# Altium schematic symbol library Smartwatch_Lib.SchLib: 35 symbols
Pins are listed as number, name and electrical type; pins without a type are passive.

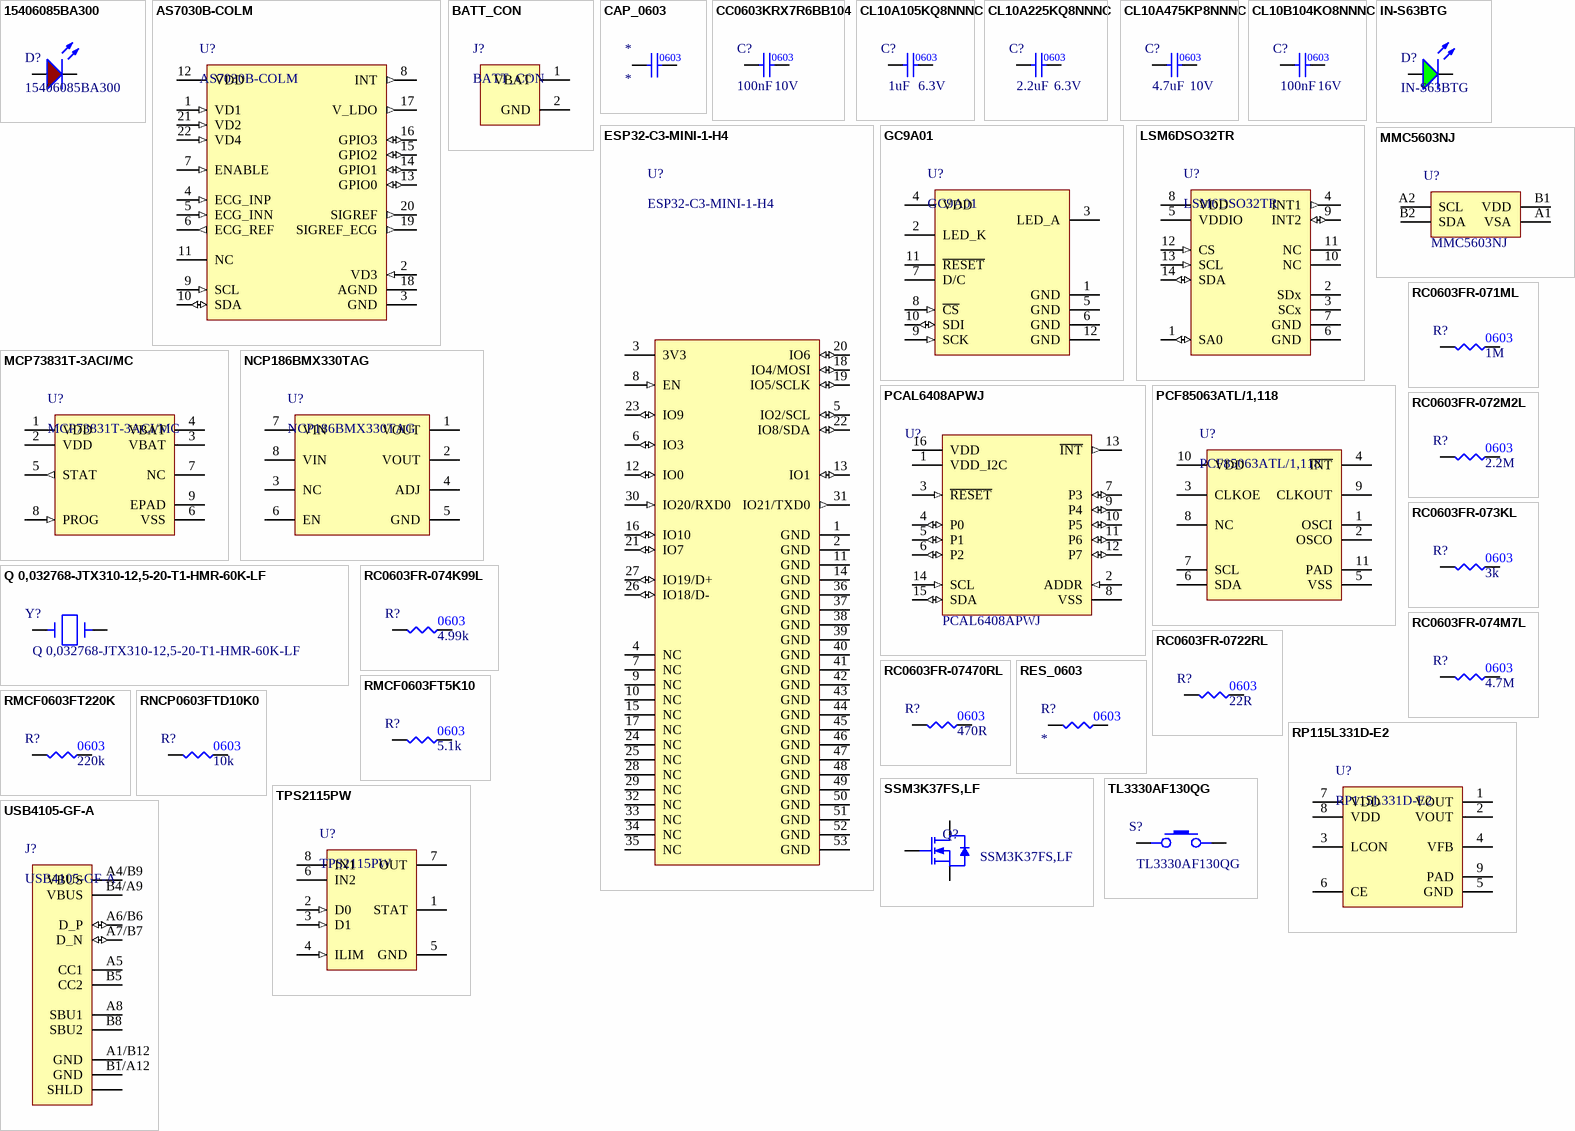
[diagram p0: symbols 15406085BA300 to USB4105-GF-A]

## 15406085BA300
designator D?
Infrared Emitter, 850 Nm, 0603 Rohs Compliant: Yes; Manufacturer: Wurth Electronics; Supplier 1: Digi-Key; Manufacturer Part Number: 15406085BA300; RoHS: Yes; Stock 1: 7698; Pricing 1: 1=0.62000, 10=0.56100, 100=0.52200, 500=0.48200, 1000=0.44300 (USD); RoHS Compliant: Yes; ComponentLink1URL: http://katalog.we-online.de/pbs/datasheet/15406085BA300.pdf?src-supplier=Digi-Key; ComponentLink1Description: http://katalog.we-online.de/pbs/datasheet/15406085BA300.pdf?src-supplier=Digi-Key; ComponentLink2URL: https://katalog.we-online.de/pbs/datasheet/15406085BA300.pdf?src-supplier=Digi-Key; ComponentLink2Description: https://katalog.we-online.de/pbs/datasheet/15406085BA300.pdf?src-supplier=Digi-Key; Supplier Part Number 1: 732-12005-1-ND
footprint LED_0603
pins: 1 A, 2 K

## AS7030B-COLM
designator U?
AS703x Series 5.5 V Medical or Consumer Grade Vital Sign Sensor Module - OLGA-22; Manufacturer: ams; Supplier 1: Mouser; Manufacturer Part Number: AS7030B-COLM; RoHS: No; Supplier Part Number 1: 985-AS7030B-COLM
footprint AS7030B-COLM (SON, 22-Leads, Body 6.36x3.51mm, Pitch 0.59mm, IPC Medium Density)
pins: 1 VD1 (in), 2 VD3 (in), 3 GND (power), 4 ECG_INP (in), 5 ECG_INN (in), 6 ECG_REF (out), 7 ENABLE (in), 8 INT (out), 9 SCL (in), 10 SDA (io), 11 NC, 12 VDD (power), 13 GPIO0 (io), 14 GPIO1 (io), 15 GPIO2 (io), 16 GPIO3 (io), 17 V_LDO (out), 18 AGND (power), 19 SIGREF_ECG (out), 20 SIGREF (out), 21 VD2 (in), 22 VD4 (in)

## BATT_CON
designator J?
Pads for Battery Connection
footprint BATT_CON
pins: 1 VBAT, 2 GND

## CAP_0603
designator *
footprint CAP_0603
pins: 1, 2
text: 0603

## CC0603KRX7R6BB104
designator C?  Capacitance: 100nF  Voltage Rating: 10V  (hidden comment: CC0603KRX7R6BB104)
CAP CER 0.1UF 10V X7R 0603; Manufacturer: Yageo; Tolerance: 10%; Supplier 1: Digi-Key; Manufacturer Part Number: CC0603KRX7R6BB104; RoHS: Yes; Category: Ceramic Capacitors; Stock 1: 135167; Pricing 1: 1=0.11000, 10=0.07700, 50=0.04340, 100=0.03600, 500=0.02522, 1000=0.02089 (USD); Mount: Surface Mount; Case/Package: 0603; Case Code (Imperial): 0603; Case Code (Metric): 1608; Weight: 7.1E-05oz; Min Operating Temperature: -55°C; Max Operating Temperature: 125°C; Dielectric: X7R; Voltage Rating (DC): 10V; Packaging: Tape and Reel; Termination: SMD/SMT; Resistor Type: Ceramic; Series: CC; Construction: Flat; Length: 1.6mm; Width: 0.8mm; Height: 0.8mm; Thickness: 0.035inch; Depth: 0.8mm; Radiation Hardening: No; Lead Free: Lead Free; Halogen Free: Halogen Free; RoHS Compliant: Yes; ComponentLink1URL: https://datasheet.ciiva.com/11586/upy-gphc-x7r-6-3v-to-50v-8-11586327.pdf?src-supplier=Avnet; ComponentLink1Description: https://datasheet.ciiva.com/11586/upy-gphc-x7r-6-3v-to-50v-8-11586327.pdf?src-supplier=Avnet; Supplier Part Number 1: 311-4055-1-ND
footprint CAP_0603
pins: 1, 2

## CL10A105KQ8NNNC
designator C?  Capacitance: 1uF  Voltage Rating (DC): 6.3V  (hidden comment: CL10A105KQ8NNNC)
CAP CER 1UF 6.3V X5R 0603; Manufacturer: Samsung; Tolerance: 10%; Supplier 1: Digi-Key; Manufacturer Part Number: CL10A105KQ8NNNC; RoHS: Yes; Category: Ceramic Capacitors; Stock 1: 1150582; Pricing 1: 1=0.10000, 10=0.03100, 50=0.01700, 100=0.01390, 500=0.00990, 1000=0.00777 (USD); Mount: Surface Mount; Case/Package: 0603; Case Code (Metric): 1608; Case Code (Imperial): 0603; Min Operating Temperature: -55°C; Max Operating Temperature: 85°C; Dielectric: X5R; Packaging: Tape and Reel; Package Quantity: 1; Voltage Rating: 6.3V; Series: CL; Construction: Flat; Length: 1.6mm; Width: 0.031inch; Height: 0.8mm; Thickness: 0.035inch; Depth: 0.8mm; Radiation Hardening: No; Lead Free: Lead Free; RoHS Compliant: Yes; ComponentLink1URL: https://datasheet.ciiva.com/25801/cl10a105kq8nnnc-25801975.pdf?src-supplier=Digi-Key; ComponentLink1Description: https://datasheet.ciiva.com/25801/cl10a105kq8nnnc-25801975.pdf?src-supplier=Digi-Key; ComponentLink2URL: https://datasheet.ciiva.com/26838/getdatasheetpartid-355285-26838337.pdf?src-supplier=Verical; ComponentLink2Description: https://datasheet.ciiva.com/26838/getdatasheetpartid-355285-26838337.pdf?src-supplier=Verical; ComponentLink3URL: https://datasheet.ciiva.com/16199/cl10a105ko8nnnc-16199274.pdf?src-supplier=Future+Electronics; ComponentLink3Description: https://datasheet.ciiva.com/16199/cl10a105ko8nnnc-16199274.pdf?src-supplier=Future+Electronics; Supplier Part Number 1: 1276-1036-1-ND
footprint CAP_0603
pins: 1, 2

## CL10A225KQ8NNNC
designator C?  Voltage Rating: 6.3V  Capacitance: 2.2uF  (hidden comment: CL10A225KQ8NNNC)
CAP CER 2.2UF 6.3V X5R 0603; Manufacturer: Samsung; Tolerance: 10%; Supplier 1: Digi-Key; Manufacturer Part Number: CL10A225KQ8NNNC; RoHS: Yes; Category: Ceramic Capacitors; Stock 1: 697049; Pricing 1: 1=0.10000, 10=0.04200, 50=0.02300, 100=0.01870, 500=0.01336, 1000=0.01050 (USD); Mount: Surface Mount; Case/Package: 0603; Case Code (Metric): 1608; Case Code (Imperial): 0603; Contact Plating: Tin; Min Operating Temperature: -55°C; Max Operating Temperature: 85°C; Packaging: Tape and Reel; Package Quantity: 1; Dielectric: X5R; Voltage Rating (DC): 6.3V; Series: CL; Construction: Flat; Voltage: 6.3V; Length: 1.6mm; Width: 0.031inch; Height: 0.8mm; Thickness: 0.035inch; Depth: 0.8mm; Radiation Hardening: No; Lead Free: Lead Free; RoHS Compliant: Yes; ComponentLink1URL: https://datasheet.ciiva.com/16199/cl10a225kq8nnnc-16199203.pdf?src-supplier=Future+Electronics; ComponentLink1Description: https://datasheet.ciiva.com/16199/cl10a225kq8nnnc-16199203.pdf?src-supplier=Future+Electronics; ComponentLink2URL: https://datasheet.ciiva.com/15195/getdatasheetpartid-358618-15195712.pdf?src-supplier=Verical; ComponentLink2Description: https://datasheet.ciiva.com/15195/getdatasheetpartid-358618-15195712.pdf?src-supplier=Verical; Supplier Part Number 1: 1276-1183-1-ND
footprint CAP_0603
pins: 1, 2

## CL10A475KP8NNNC
designator C?  Capacitance: 4.7uF  Voltage Rating: 10V  (hidden comment: CL10A475KP8NNNC)
CAP CER 4.7UF 10V X5R 0603; Manufacturer: Samsung; Tolerance: 10%; Supplier 1: Digi-Key; Manufacturer Part Number: CL10A475KP8NNNC; RoHS: Yes; Category: Ceramic Capacitors; Stock 1: 5193189; Pricing 1: 1=0.10000, 10=0.04700, 50=0.02580, 100=0.02110, 500=0.01506, 1000=0.01183 (USD); Mount: Surface Mount; Case/Package: 0603; Case Code (Metric): 1608; Case Code (Imperial): 0603; Contact Plating: Tin; Min Operating Temperature: -55°C; Max Operating Temperature: 85°C; Package Quantity: 1; Packaging: Tape and Reel; Dielectric: X5R; Series: CL; Construction: Flat; Length: 1.6mm; Width: 0.031inch; Height: 0.8mm; Thickness: 0.035inch; Depth: 0.8mm; Radiation Hardening: No; RoHS Compliant: Yes; ComponentLink1URL: https://datasheet.ciiva.com/25797/cl10a475kp8nnnc-25797520.pdf?src-supplier=Digi-Key; ComponentLink1Description: https://datasheet.ciiva.com/25797/cl10a475kp8nnnc-25797520.pdf?src-supplier=Digi-Key; ComponentLink2URL: https://datasheet.ciiva.com/26838/getdatasheetpartid-358676-26838384.pdf?src-supplier=Verical; ComponentLink2Description: https://datasheet.ciiva.com/26838/getdatasheetpartid-358676-26838384.pdf?src-supplier=Verical; ComponentLink3URL: https://datasheet.ciiva.com/16318/cl05b104kq5nnnc-16318245.pdf?src-supplier=Future+Electronics; ComponentLink3Description: https://datasheet.ciiva.com/16318/cl05b104kq5nnnc-16318245.pdf?src-supplier=Future+Electronics; Supplier Part Number 1: 1276-1044-1-ND
footprint CAP_0603
pins: 1, 2

## CL10B104KO8NNNC
designator C?  Capacitance: 100nF  Voltage Rating: 16V  (hidden comment: CL10B104KO8NNNC)
CAP CER 0.1UF 16V X7R 0603; Manufacturer: Samsung; Material: Ceramic; Tolerance: 10%; Supplier 1: Digi-Key; Manufacturer Part Number: CL10B104KO8NNNC; RoHS: Yes; Category: Ceramic Capacitors; Stock 1: 5142695; Pricing 1: 1=0.10000, 10=0.03000, 50=0.01640, 100=0.01330, 500=0.00950, 1000=0.00747 (USD); Mount: Surface Mount; Case/Package: 0603; Case Code (Metric): 1608; Case Code (Imperial): 0603; Contact Plating: Tin; Min Operating Temperature: -55°C; Max Operating Temperature: 125°C; Dielectric: X7R; Voltage Rating (DC): 16V; Packaging: Tape and Reel; Package Quantity: 1; Voltage: 16V; Series: CL; Length: 1.6mm; Width: 0.031inch; Height: 0.8mm; Depth: 0.8mm; Thickness: 0.035inch; Radiation Hardening: No; Lead Free: Lead Free; RoHS Compliant: Yes; ComponentLink1URL: https://datasheet.ciiva.com/25805/cl10b104ko8nnnc-25805483.pdf?src-supplier=Digi-Key; ComponentLink1Description: https://datasheet.ciiva.com/25805/cl10b104ko8nnnc-25805483.pdf?src-supplier=Digi-Key; ComponentLink2URL: https://datasheet.ciiva.com/26838/getdatasheetpartid-357417-26838418.pdf?src-supplier=Verical; ComponentLink2Description: https://datasheet.ciiva.com/26838/getdatasheetpartid-357417-26838418.pdf?src-supplier=Verical; ComponentLink3URL: https://datasheet.ciiva.com/29198/456679-da-01-en-vs-kondensator-0603-29198846.pdf?src-supplier=Conrad; ComponentLink3Description: https://datasheet.ciiva.com/29198/456679-da-01-en-vs-kondensator-0603-29198846.pdf?src-supplier=Conrad; Supplier Part Number 1: 1276-1005-1-ND
footprint CAP_0603
pins: 1, 2

## ESP32-C3-MINI-1-H4
designator U?
SMD Module, ESP32-C3FH4, Pcb Ant; Manufacturer: Espressif Systems; Supplier 1: Digi-Key; Manufacturer Part Number: ESP32-C3-MINI-1-H4; RoHS: No; Stock 1: 1970; Pricing 1: 1=1.95000 (USD); Supplier Part Number 1: 1965-ESP32-C3-MINI-1-H4CT-ND
footprint ESP32-C3-MINI-1-H4
pins: 1 GND (power), 2 GND (power), 3 3V3 (power), 4 NC, 5 IO2/SCL (io), 6 IO3 (io), 7 NC, 8 EN (in), 9 NC, 10 NC, 11 GND (power), 12 IO0 (io), 13 IO1 (io), 14 GND (power), 15 NC, 16 IO10 (io), 17 NC, 18 IO4/MOSI (io), 19 IO5/SCLK (io), 20 IO6 (io), 21 IO7 (io), 22 IO8/SDA (io), 23 IO9 (io), 24 NC, 25 NC, 26 IO18/D- (io), 27 IO19/D+ (io), 28 NC, 29 NC, 30 IO20/RXD0 (in), 31 IO21/TXD0 (out), 32 NC, 33 NC, 34 NC, 35 NC, 36 GND (power), 37 GND (power), 38 GND (power), 39 GND (power), 40 GND (power), 41 GND (power), 42 GND (power), 43 GND (power), 44 GND (power), 45 GND (power), 46 GND (power), 47 GND (power), 48 GND (power), 49 GND (power), 50 GND (power), 51 GND (power), 52 GND (power), 53 GND (power)

## GC9A01
designator U?
GC9A01 LCD Display
footprint GC9A01
pins: 1 GND, 2 LED_K, 3 LED_A, 4 VDD, 5 GND, 6 GND, 7 D/C, 8 ~{CS} (in), 9 SCK (in), 10 SDI (io), 11 ~{RESET}, 12 GND

## IN-S63BTG
designator D?
LED Uni-Color Green 530nm 2-Pin Chip 0603(1608Metric) T/R; Manufacturer: Inolux; Supplier 1: Digi-Key; Manufacturer Part Number: IN-S63BTG; RoHS: Yes; Category: LEDs; Stock 1: 10550; Pricing 1: 1=0.33000, 10=0.26300, 100=0.11830, 500=0.10684, 1000=0.08777, 2000=0.07632 (USD); Supplier Part Number 1: 1830-1069-1-ND
footprint LED_0603
pins: 1 A, 2 K

## LSM6DSO32TR
designator U?
Accelerometer and 3D Gyroscope 3D Always-On 1.71V to 3.6V 0.55mA 14-Pin LGA T/R; Manufacturer: STMicroelectronics; Supplier 1: Digi-Key; Manufacturer Part Number: LSM6DSO32TR; RoHS: Yes; Category: Inertial Measurement Units (IMUs); Stock 1: 3146; Pricing 1: 1=5.47000, 10=4.91400, 25=4.64520, 100=4.02600, 500=3.44102 (USD); Supplier Part Number 1: 497-LSM6DSO32CT-ND
footprint LSM6DSO32 (QFN, 14-Leads, Body 3.00x2.50mm, Pitch 0.50mm, IPC Medium Density)
pins: 1 SA0 (io), 2 SDx, 3 SCx, 4 INT1 (out), 5 VDDIO (power), 6 GND (power), 7 GND (power), 8 VDD (oe), 9 INT2 (io), 10 NC, 11 NC, 12 CS (in), 13 SCL (in), 14 SDA (io)

## MCP73831T-3ACI/MC
designator U?
Battery Management - Advanced Lithium-Ion/-Polymer Charge mgnt contr; Manufacturer: Microchip; Output Voltage: 4.35V; Output Current: 500mA; Min Supply Voltage: 3.75V; Max Supply Voltage: 6V; Supplier 1: Digi-Key; Manufacturer Part Number: MCP73831T-3ACI/MC; RoHS: Yes; Category: Battery Management; Stock 1: 1670; Pricing 1: 1=0.83000, 25=0.69960, 100=0.64500 (USD); Mount: Surface Mount; Case/Package: DFN; Number of Pins: 8; Min Operating Temperature: -40°C; Max Operating Temperature: 85°C; Packaging: Tape and Reel; Package Quantity: 3300; Radiation Hardening: No; Lead Free: Lead Free; RoHS Compliant: Yes; ComponentLink1URL: https://datasheet.ciiva.com/3215/21984e-3215301.pdf?src-supplier=Avnet; ComponentLink1Description: https://datasheet.ciiva.com/3215/21984e-3215301.pdf?src-supplier=Avnet; ComponentLink2URL: https://datasheet.ciiva.com/1933/21984e-1933408.pdf?src-supplier=Digi-Key; ComponentLink2Description: https://datasheet.ciiva.com/1933/21984e-1933408.pdf?src-supplier=Digi-Key; Supplier Part Number 1: MCP73831T-3ACI/MCCT-ND
footprint MCP73831T-3ACI/MC (SON, 8-Leads, Body 2.00x3.00mm, Pitch 0.50mm, Thermal Pad 1.43x1.58mm, IPC Medium Density)
pins: 1 VDD, 2 VDD, 3 VBAT, 4 VBAT, 5 STAT (out), 6 VSS, 7 NC, 8 PROG (in), 9 EPAD

## MMC5603NJ
designator U?
3-AXIS Amr Magnetic Sensor; Manufacturer: Memsic; Supplier 1: Digi-Key; RoHS: Yes; Stock 1: 55171; Pricing 1: 1=1.12000, 5=1.06600, 10=0.92800, 25=0.81520, 50=0.67720, 100=0.57680, 500=0.50160, 1000=0.43890, 5000=0.38874 (USD); Supplier Part Number 1: 1267-MMC5603NJCT-ND; Manufacturer Part Number: MMC5603NJ
footprint MMC5603NJ (BGA, 4-Leads, Body 0.82x0.82mmx0.60mm, Pitch 0.40mm)
pins: A1 VSA, A2 SCL, B1 VDD, B2 SDA

## NCP186BMX330TAG
designator U?
LDO Regulator, 1 A, Ultra-Low Dropout, High PSRR, with Enable XDFN8-1216, Non-Active Discharge, 3.3V; Manufacturer: ON Semiconductor; Output Current: 1A; Dropout Voltage: 95mV; Number of Regulators: 1; Min Current Limit: 1.1A; Supplier 1: Digi-Key; Manufacturer Part Number: NCP186BMX330TAG; RoHS: Yes; Category: Voltage Regulators - Linear; Stock 1: 3000; Pricing 1: 1=0.52000, 10=0.44200, 25=0.41200, 100=0.32970, 250=0.30620, 500=0.25908, 1000=0.20020 (USD); Min Operating Temperature: -40°C; Max Operating Temperature: 125°C; Packaging: Tape and Reel; Output Voltage: 3.3V; Lead Free: Lead Free; RoHS Compliant: Yes; ComponentLink1URL: http://www.mouser.com/ds/2/308/NCP186-D-968152.pdf?src-supplier=Mouser; ComponentLink1Description: http://www.mouser.com/ds/2/308/NCP186-D-968152.pdf?src-supplier=Mouser; ComponentLink2URL: http://www.onsemi.com/pub/Collateral/NCP186-D.PDF?src-supplier=Digi-Key; ComponentLink2Description: http://www.onsemi.com/pub/Collateral/NCP186-D.PDF?src-supplier=Digi-Key; Supplier Part Number 1: NCP186BMX330TAGOSCT-ND
footprint NCP186BMX330TAG (SON, 8-Leads, Body 1.60x1.20mm, Pitch 0.40mm, Thermal Pad 1.30x0.22mm, IPC Medium Density)
pins: 1 VOUT, 2 VOUT, 3 NC, 4 ADJ, 5 GND, 6 EN, 7 VIN, 8 VIN

## PCAL6408APWJ
designator U?
NXP - PCAL6408APWJ - I/O-Erweiterung, 8bit, 400 kHz, I2C, 1.65 V, 5.5 V, TSSOP; Manufacturer: NXP Semiconductors; Output Current: 25mA; Min Supply Voltage: 1.65V; Max Supply Voltage: 5.5V; Number of I/Os: 8; Frequency: 400kHz; Supplier 1: Digi-Key; RoHS: Yes; Category: Interface ICs; Stock 1: 9585; Pricing 1: 1=1.57000, 10=1.40600, 25=1.33400, 100=1.29330 (USD); Mount: Surface Mount; Case/Package: TSSOP; Number of Pins: 16; Min Operating Temperature: -40°C; Max Operating Temperature: 85°C; Package Quantity: 1; Interface: I2C; Packaging: Tape and Reel; Max Frequency: 400kHz; Series: -; REACH SVHC: No SVHC; Lead Free: Lead Free; RoHS Compliant: Yes; ComponentLink1URL: https://datasheet.ciiva.com/6633/pcal6408a-6633104.pdf?src-supplier=Digi-Key; ComponentLink1Description: https://datasheet.ciiva.com/6633/pcal6408a-6633104.pdf?src-supplier=Digi-Key; Supplier Part Number 1: 568-9921-1-ND; Manufacturer Part Number: PCAL6408APWJ
footprint PCAL6408APWJ (TSOP, 16-Leads, Body 5.00x4.40mm, Pitch 0.65mm, IPC Medium Density)
pins: 1 VDD_I2C (power), 2 ADDR (in), 3 ~{RESET} (in), 4 P0 (io), 5 P1 (io), 6 P2 (io), 7 P3 (io), 8 VSS (power), 9 P4 (io), 10 P5 (io), 11 P6 (io), 12 P7 (io), 13 ~{INT} (out), 14 SCL (in), 15 SDA (io), 16 VDD (power)

## PCF85063ATL/1,118
designator U?
IC RTC CLK/CALENDAR I2C 10-SON; Manufacturer: NXP Semiconductors; Max Supply Voltage: 5.5V; Min Supply Voltage: 900mV; Logic Function: Clock; Date Format: Binary; Time Format: HH:MM:SS; Supplier 1: Digi-Key; Manufacturer Part Number: PCF85063ATL/1,118; RoHS: Yes; Category: Real Time Clocks; Stock 1: 59710; Pricing 1: 1=0.99000, 10=0.88300, 25=0.83840, 100=0.81280 (USD); Mount: Surface Mount; Case/Package: DFN EP; Number of Pins: 10; Min Operating Temperature: -40°C; Max Operating Temperature: 85°C; Packaging: Tape and Reel; Package Quantity: 4000; Interface: I2C; Radiation Hardening: No; REACH SVHC: No SVHC; Lead Free: Lead Free; RoHS Compliant: Yes; ComponentLink1URL: https://datasheet.ciiva.com/24009/pcf85063atl-260519-24009961.pdf?src-supplier=Mouser; ComponentLink1Description: https://datasheet.ciiva.com/24009/pcf85063atl-260519-24009961.pdf?src-supplier=Mouser; ComponentLink2URL: https://datasheet.ciiva.com/29888/pcf85063a-29888091.pdf?src-supplier=Avnet; ComponentLink2Description: https://datasheet.ciiva.com/29888/pcf85063a-29888091.pdf?src-supplier=Avnet; Supplier Part Number 1: 568-10235-1-ND
footprint PCF85063ATL/1,118 (SON, 10-Leads, Body 2.60x2.60mm, Pitch 0.50mm, Thermal Pad 2.15x1.29mm, IPC Medium Density)
pins: 1 OSCI, 2 OSCO, 3 CLKOE, 4 ~{INT}, 5 VSS, 6 SDA, 7 SCL, 8 NC, 9 CLKOUT, 10 VDD, 11 PAD

## Q 0,032768-JTX310-12,5-20-T1-HMR-60K-LF
designator Y?
Crystal 32.7680KHZ 12.5PF SMD; Manufacturer: Jauch; ESR: 60k; Supplier 1: Digi-Key; RoHS: No; Stock 1: 4280; Pricing 1: 1=0.59000, 10=0.49500, 50=0.44560, 100=0.39600, 500=0.37620, 1000=0.31680 (USD); Supplier Part Number 1: 1908-1315-1-ND; Load Capacitance: 12.5pF; Manufacturer Part Number: Q 0,032768-JTX310-12,5-20-T1-HMR-60K-LF
footprint Q 0,032768-JTX310-12,5-20-T1-HMR-60K-LF (Tuning Fork 2-Leads, Body 3.20x1.50mm, IPC Medium Density)
pins: 1 In/Out, 2 Out/In

## RC0603FR-071ML
designator R?  Resistance: 1M  (hidden comment: RC0603FR-071ML)
RES 1M OHM 1% 1/10W 0603; Manufacturer: Yageo; Voltage Rating: 75V; Voltage Rating (DC): 50V; Power Rating: 100mW; Temperature Coefficient: 100ppm/°C; Application(s): HIGH RELIABILITY; Supplier 1: Digi-Key; Manufacturer Part Number: RC0603FR-071ML; RoHS: Yes; Category: Chip SMD Resistors; Stock 1: 2335859; Pricing 1: 1=0.10000, 10=0.02400, 100=0.00970, 1000=0.00436, 2500=0.00378 (USD); Case/Package: 0603; Number of Pins: 2; Case Code (Imperial): 0603; Case Code (Metric): 1608; Weight: 0.000847oz; Min Operating Temperature: -55°C; Max Operating Temperature: 155°C; Tolerance: 1%; Packaging: Cut Tape; Package Quantity: 5000; Termination: SMD/SMT; Resistor Type: Thick Film; Type: General Purpose; Series: RC; Technology: THICK FILM; Length: 1.6mm; Width: 0.8mm; Height: 0.45mm; Depth: 0.8mm; RoHS Compliant: Yes; REACH SVHC: No SVHC; Military Standard: Not; Lead Free: Lead Free; ComponentLink1URL: https://datasheet.ciiva.com/11819/0900766b80f96399-11819295.pdf?src-supplier=RSComponents; ComponentLink1Description: https://datasheet.ciiva.com/11819/0900766b80f96399-11819295.pdf?src-supplier=RSComponents; ComponentLink2URL: https://datasheet.ciiva.com/7983/443971-7983614.pdf?src-supplier=Element14; ComponentLink2Description: https://datasheet.ciiva.com/7983/443971-7983614.pdf?src-supplier=Element14; ComponentLink3URL: https://datasheet.ciiva.com/12555/rc0603-272842-12555388.pdf?src-supplier=Mouser; ComponentLink3Description: https://datasheet.ciiva.com/12555/rc0603-272842-12555388.pdf?src-supplier=Mouser; Supplier Part Number 1: 311-1.00MHRCT-ND
footprint RES_0603
pins: 1, 2

## RC0603FR-072M2L
designator R?  Resistance: 2.2M  (hidden comment: RC0603FR-072M2L)
RES SMD 2.2M OHM 1% 1/10W 0603; Manufacturer: Yageo; Voltage Rating (DC): 50V; Power Rating: 100mW; Temperature Coefficient: 100ppm/°C; Supplier 1: Digi-Key; Manufacturer Part Number: RC0603FR-072M2L; RoHS: Yes; Category: Chip SMD Resistors; Stock 1: 189008; Pricing 1: 1=0.10000, 10=0.02400, 100=0.00970, 1000=0.00436, 2500=0.00378 (USD); Case/Package: 0603; Number of Pins: 2; Case Code (Imperial): 0603; Case Code (Metric): 1608; Size Code: 0603; Min Operating Temperature: -55°C; Max Operating Temperature: 155°C; Packaging: Tape and Reel; Tolerance: 1%; Voltage Rating: 50V; Package Quantity: 5000; Resistor Type: Thick Film; Number of Terminations: 2; Termination: SMD/SMT; Max Power Dissipation: 100mW; Features: Moisture Resistant; Series: RC; Resistance Tolerance: 1%; Technology: THICK FILM; Length: 1.6mm; Width: 0.8mm; Height: 0.45mm; Depth: 0.8mm; REACH SVHC: No SVHC; Lead Free: Lead Free; RoHS Compliant: Yes; ComponentLink1URL: https://datasheet.ciiva.com/11808/0900766b80f96399-11808742.pdf?src-supplier=RSComponents; ComponentLink1Description: https://datasheet.ciiva.com/11808/0900766b80f96399-11808742.pdf?src-supplier=RSComponents; ComponentLink2URL: https://datasheet.ciiva.com/46440/1868787-46440903.pdf?src-supplier=Element14; ComponentLink2Description: https://datasheet.ciiva.com/46440/1868787-46440903.pdf?src-supplier=Element14; ComponentLink3URL: https://datasheet.ciiva.com/12558/rc0603-272842-12558598.pdf?src-supplier=Mouser; ComponentLink3Description: https://datasheet.ciiva.com/12558/rc0603-272842-12558598.pdf?src-supplier=Mouser; ComponentLink4URL: https://datasheet.ciiva.com/7746/443971-7746319.pdf?src-supplier=Element14; ComponentLink4Description: https://datasheet.ciiva.com/7746/443971-7746319.pdf?src-supplier=Element14; Supplier Part Number 1: YAG3329CT-ND
footprint RES_0603
pins: 1, 2

## RC0603FR-073KL
designator R?, comment Resistance: 3k  (hidden comment: RES 3K OHM 1% 1/10W 0603)
Manufacturer: Yageo; Manufacturer Part Number: RC0603FR-073KL; Power Rating: 100mW; Voltage Rating: 50V; Temperature Coefficient: 100ppm/°C; Supplier 1: Digi-Key; RoHS: Yes; Category: Chip SMD Resistors; Stock 1: 631733; Pricing 1: 1=0.10000, 10=0.02400, 100=0.00970, 1000=0.00436, 2500=0.00378 (USD); Case/Package: 0603; Number of Pins: 2; Case Code (Imperial): 0603; Case Code (Metric): 1608; Size Code: 0603; Min Operating Temperature: -55°C; Max Operating Temperature: 155°C; Tolerance: 1%; Packaging: Tape and Reel; Termination: SMD/SMT; Resistor Type: Thick Film; Voltage Rating (DC): 50V; Features: Moisture Resistant; Series: RC; Max Power Dissipation: 100mW; Number of Terminations: 2; Construction: Rectangular; Resistance Tolerance: 1%; Length: 1.6mm; Width: 800um; Depth: 0.8mm; REACH SVHC: No SVHC; Military Standard: Not; Lead Free: Lead Free; RoHS Compliant: Yes; ComponentLink1URL: http://www.farnell.com/datasheets/2167052.pdf?src-supplier=Farnell; ComponentLink1Description: http://www.farnell.com/datasheets/2167052.pdf?src-supplier=Farnell; ComponentLink2URL: http://www.mouser.com/ds/2/447/RC0603-272842.pdf?src-supplier=Mouser; ComponentLink2Description: http://www.mouser.com/ds/2/447/RC0603-272842.pdf?src-supplier=Mouser; ComponentLink3URL: https://www.verical.com/server-webapp/html/getDatasheet?partID=135099&src-supplier=Verical; ComponentLink3Description: https://www.verical.com/server-webapp/html/getDatasheet?partID=135099&src-supplier=Verical; ComponentLink4URL: http://www.farnell.com/datasheets/2167052.pdf?src-supplier=Element14; ComponentLink4Description: http://www.farnell.com/datasheets/2167052.pdf?src-supplier=Element14; ComponentLink5URL: http://www.yageo.com/documents/recent/PYu-RC_Group_51_RoHS_L_10.pdf?src-supplier=Digi-Key; ComponentLink5Description: http://www.yageo.com/documents/recent/PYu-RC_Group_51_RoHS_L_10.pdf?src-supplier=Digi-Key; ComponentLink6URL: http://www.yageo.com/documents/recent/PYu-RC_Group_51_RoHS_L_9.pdf?src-supplier=Digi-Key; ComponentLink6Description: http://www.yageo.com/documents/recent/PYu-RC_Group_51_RoHS_L_9.pdf?src-supplier=Digi-Key; ComponentLink7URL: http://www.farnell.com/datasheets/1868787.pdf?src-supplier=Newark; ComponentLink7Description: http://www.farnell.com/datasheets/1868787.pdf?src-supplier=Newark; ComponentLink8URL: http://www.yageo.com/documents/recent/PYu-RC0603_51_RoHS_L_7.pdf?src-supplier=Future+Electronics; ComponentLink8Description: http://www.yageo.com/documents/recent/PYu-RC0603_51_RoHS_L_7.pdf?src-supplier=Future+Electronics; Supplier Part Number 1: 311-3.00KHRCT-ND
footprint RES_0603
pins: 1, 2

## RC0603FR-074K99L
designator R?  Resistance: 4.99k  (hidden comment: RC0603FR-074K99L)
RES 4.99K OHM 1% 1/10W 0603; Manufacturer: Yageo; Voltage Rating: 75V; Power Rating: 100mW; Temperature Coefficient: 100ppm/°C; Voltage Rating (DC): 50V; Supplier 1: Digi-Key; Manufacturer Part Number: RC0603FR-074K99L; RoHS: Yes; Category: Chip SMD Resistors; Stock 1: 5200913; Pricing 1: 1=0.10000, 10=0.02400, 100=0.00970, 1000=0.00436, 2500=0.00378 (USD); Case/Package: 0603; Number of Pins: 2; Case Code (Imperial): 0603; Case Code (Metric): 1608; Weight: 7.1E-05oz; Size Code: 0603; Min Operating Temperature: -55°C; Max Operating Temperature: 155°C; Packaging: Tape and Reel; Tolerance: 1%; Package Quantity: 1; Termination: SMD/SMT; Resistor Type: Thick Film; Number of Terminations: 2; Max Power Dissipation: 100mW; Features: Moisture Resistant; Series: RC; Construction: Rectangular; Resistance Tolerance: 1%; Length: 1.6mm; Width: 0.8mm; Height: 0.022inch; Depth: 0.8mm; REACH SVHC: Unknown; Military Standard: Not; Lead Free: Lead Free; RoHS Compliant: Yes; ComponentLink1URL: https://datasheet.ciiva.com/7983/443971-7983646.pdf?src-supplier=Element14; ComponentLink1Description: https://datasheet.ciiva.com/7983/443971-7983646.pdf?src-supplier=Element14; ComponentLink2URL: https://datasheet.ciiva.com/22747/443971-22747529.pdf?src-supplier=Element14; ComponentLink2Description: https://datasheet.ciiva.com/22747/443971-22747529.pdf?src-supplier=Element14; ComponentLink3URL: https://datasheet.ciiva.com/2453/pyu-r-int-thick-7-2453980.pdf?src-supplier=Digi-Key; ComponentLink3Description: https://datasheet.ciiva.com/2453/pyu-r-int-thick-7-2453980.pdf?src-supplier=Digi-Key; ComponentLink4URL: https://datasheet.ciiva.com/2453/pyu-r-int-thick-7-2453981.pdf?src-supplier=Digi-Key; ComponentLink4Description: https://datasheet.ciiva.com/2453/pyu-r-int-thick-7-2453981.pdf?src-supplier=Digi-Key; ComponentLink5URL: https://datasheet.ciiva.com/2453/pyu-r-int-thick-7-2453979.pdf?src-supplier=Digi-Key; ComponentLink5Description: https://datasheet.ciiva.com/2453/pyu-r-int-thick-7-2453979.pdf?src-supplier=Digi-Key; Supplier Part Number 1: 311-4.99KHRCT-ND
footprint RES_0603
pins: 1, 2

## RC0603FR-074M7L
designator R?  Resistance: 4.7M  (hidden comment: RC0603FR-074M7L)
RES 4.7M OHM 1% 1/10W 0603; Manufacturer: Yageo; Temperature Coefficient: 100ppm/°C; Power Rating: 100mW; Voltage Rating: 50V; Supplier 1: Digi-Key; Manufacturer Part Number: RC0603FR-074M7L; RoHS: Yes; Category: Chip SMD Resistors; Stock 1: 424983; Pricing 1: 1=0.10000, 10=0.02400, 100=0.00970, 1000=0.00436, 2500=0.00378 (USD); Case/Package: 0603; Number of Pins: 2; Case Code (Imperial): 0603; Case Code (Metric): 1608; Size Code: 0603; Min Operating Temperature: -55°C; Max Operating Temperature: 155°C; Tolerance: 1%; Packaging: Tape and Reel; Voltage Rating (DC): 50V; Termination: SMD/SMT; Resistor Type: Thick Film; Features: Moisture Resistant; Series: RC; Max Power Dissipation: 100mW; Number of Terminations: 2; Resistance Tolerance: 1%; Technology: THICK FILM; Construction: Rectangular; Length: 1.6mm; Width: 0.8mm; Height: 0.45mm; Depth: 0.8mm; RoHS Compliant: Yes; REACH SVHC: No SVHC; Military Standard: Not; Lead Free: Lead Free; ComponentLink1URL: https://datasheet.ciiva.com/11819/0900766b80f96399-11819362.pdf?src-supplier=RSComponents; ComponentLink1Description: https://datasheet.ciiva.com/11819/0900766b80f96399-11819362.pdf?src-supplier=RSComponents; ComponentLink2URL: https://datasheet.ciiva.com/7746/443971-7746367.pdf?src-supplier=Element14; ComponentLink2Description: https://datasheet.ciiva.com/7746/443971-7746367.pdf?src-supplier=Element14; ComponentLink3URL: https://datasheet.ciiva.com/15189/getdatasheetpartid-328863-15189765.pdf?src-supplier=Verical; ComponentLink3Description: https://datasheet.ciiva.com/15189/getdatasheetpartid-328863-15189765.pdf?src-supplier=Verical; Supplier Part Number 1: 311-4.70MHRCT-ND
footprint RES_0603
pins: 1, 2

## RC0603FR-0722RL
designator R?  Resistance: 22R  (hidden comment: RC0603FR-0722RL)
RES 22 OHM 1% 1/10W 0603; Manufacturer: Yageo; Temperature Coefficient: 100ppm/°C; Voltage Rating (DC): 50V; Power Rating: 100mW; Supplier 1: RSComponents; Manufacturer Part Number: RC0603FR-0722RL; RoHS: Yes; Category: Chip SMD Resistors; Stock 1: 10000; Pricing 1: 5000=0.00300, 10000=0.00300, 15000=0.00300, 20000=0.00300 (GBP); Case/Package: 0603; Number of Pins: 2; Case Code (Metric): 1608; Case Code (Imperial): 0603; Size Code: 0603; Min Operating Temperature: -55°C; Max Operating Temperature: 155°C; Tolerance: 1%; Resistor Type: Thick Film; Packaging: Tape and Reel; Voltage Rating: 50V; Package Quantity: 1; Number of Terminations: 2; Termination: SMD/SMT; Max Power Dissipation: 100mW; Features: Moisture Resistant; Series: RC; Resistance Tolerance: 1%; Technology: THICK FILM; Construction: Rectangular; Length: 1.6mm; Width: 0.031inch; Height: 0.022inch; Depth: 0.8mm; REACH SVHC: No SVHC; Lead Free: Lead Free; Military Standard: Not; RoHS Compliant: Yes; ComponentLink1URL: https://datasheet.ciiva.com/11819/0900766b80f96399-11819285.pdf?src-supplier=RSComponents; ComponentLink1Description: https://datasheet.ciiva.com/11819/0900766b80f96399-11819285.pdf?src-supplier=RSComponents; ComponentLink2URL: https://datasheet.ciiva.com/46395/443971-46395032.pdf?src-supplier=Element14; ComponentLink2Description: https://datasheet.ciiva.com/46395/443971-46395032.pdf?src-supplier=Element14; ComponentLink3URL: https://datasheet.ciiva.com/46440/1868787-46440901.pdf?src-supplier=Element14; ComponentLink3Description: https://datasheet.ciiva.com/46440/1868787-46440901.pdf?src-supplier=Element14; ComponentLink4URL: https://datasheet.ciiva.com/2454/pyu-r-int-thick-7-2454355.pdf?src-supplier=Digi-Key; ComponentLink4Description: https://datasheet.ciiva.com/2454/pyu-r-int-thick-7-2454355.pdf?src-supplier=Digi-Key; ComponentLink5URL: https://datasheet.ciiva.com/2454/pyu-r-int-thick-7-2454356.pdf?src-supplier=Digi-Key; ComponentLink5Description: https://datasheet.ciiva.com/2454/pyu-r-int-thick-7-2454356.pdf?src-supplier=Digi-Key; ComponentLink6URL: https://datasheet.ciiva.com/2454/pyu-r-int-thick-7-2454354.pdf?src-supplier=Digi-Key; ComponentLink6Description: https://datasheet.ciiva.com/2454/pyu-r-int-thick-7-2454354.pdf?src-supplier=Digi-Key; Supplier Part Number 1: 1995503
footprint RES_0603
pins: 1, 2

## RC0603FR-07470RL
designator R?  Resistance: 470R  (hidden comment: RC0603FR-07470RL)
RES 470 OHM 1% 1/10W 0603; Manufacturer: Yageo; Power Rating: 100mW; Voltage Rating: 50V; Temperature Coefficient: 100ppm/°C; Working Voltage: 75V; Supplier 1: Digi-Key; Manufacturer Part Number: RC0603FR-07470RL; RoHS: Yes; Category: Chip SMD Resistors; Stock 1: 1312688; Pricing 1: 1=0.10000, 10=0.02400, 100=0.00970, 1000=0.00436, 2500=0.00378 (USD); Case/Package: 0603; Case Code (Metric): 1608; Case Code (Imperial): 0603; Min Operating Temperature: -55°C; Max Operating Temperature: 155°C; Tolerance: 1%; Packaging: Tape and Reel; Package Quantity: 1; Resistor Type: Thick Film; Number of Terminations: 2; Termination: SMD/SMT; Max Power Dissipation: 100mW; Features: Moisture Resistant; Series: RC; Technology: THICK FILM; Resistance Tolerance: 1%; Construction: Rectangular; Length: 1.6mm; Width: 0.031inch; Height: 0.022inch; Depth: 0.8mm; RoHS Compliant: Yes; REACH SVHC: No SVHC; Military Standard: Not; Lead Free: Lead Free; ComponentLink1URL: https://datasheet.ciiva.com/11808/0900766b80f96399-11808177.pdf?src-supplier=RSComponents; ComponentLink1Description: https://datasheet.ciiva.com/11808/0900766b80f96399-11808177.pdf?src-supplier=RSComponents; ComponentLink2URL: https://datasheet.ciiva.com/7660/1868787-7660793.pdf?src-supplier=Element14; ComponentLink2Description: https://datasheet.ciiva.com/7660/1868787-7660793.pdf?src-supplier=Element14; ComponentLink3URL: https://datasheet.ciiva.com/46440/1868787-46440907.pdf?src-supplier=Element14; ComponentLink3Description: https://datasheet.ciiva.com/46440/1868787-46440907.pdf?src-supplier=Element14; ComponentLink4URL: https://datasheet.ciiva.com/2454/pyu-r-int-thick-7-2454013.pdf?src-supplier=Digi-Key; ComponentLink4Description: https://datasheet.ciiva.com/2454/pyu-r-int-thick-7-2454013.pdf?src-supplier=Digi-Key; ComponentLink5URL: https://datasheet.ciiva.com/2454/pyu-r-int-thick-7-2454014.pdf?src-supplier=Digi-Key; ComponentLink5Description: https://datasheet.ciiva.com/2454/pyu-r-int-thick-7-2454014.pdf?src-supplier=Digi-Key; ComponentLink6URL: https://datasheet.ciiva.com/2454/pyu-r-int-thick-7-2454012.pdf?src-supplier=Digi-Key; ComponentLink6Description: https://datasheet.ciiva.com/2454/pyu-r-int-thick-7-2454012.pdf?src-supplier=Digi-Key; ComponentLink7URL: https://datasheet.ciiva.com/7746/1738695-7746359.pdf?src-supplier=Element14; ComponentLink7Description: https://datasheet.ciiva.com/7746/1738695-7746359.pdf?src-supplier=Element14; ComponentLink8URL: https://datasheet.ciiva.com/7746/1738695-7746360.pdf?src-supplier=Element14; ComponentLink8Description: https://datasheet.ciiva.com/7746/1738695-7746360.pdf?src-supplier=Element14; Supplier Part Number 1: 311-470HRCT-ND
footprint RES_0603
pins: 1, 2

## RES_0603
designator R?
footprint RES_0603
pins: 1, 2
text: 0603

## RMCF0603FT5K10
designator R?  Resistance: 5.1k  (hidden comment: RMCF0603FT5K10)
Res Thick Film 0603 5.1K Ohm 1% 0.1W(1/10W) ±100ppm/C Pad SMD Automotive T/R; Manufacturer: Stackpole Electronics; Max Power Dissipation: 100mW; Temperature Coefficient: 100ppm/°C; Supplier 1: Digi-Key; Manufacturer Part Number: RMCF0603FT5K10; RoHS: Yes; Category: Chip SMD Resistors; Stock 1: 1237364; Pricing 1: 1=0.10000, 10=0.01700, 100=0.00680, 1000=0.00305, 2500=0.00264 (USD); Mount: Surface Mount; Case/Package: 0603; Case Code (Metric): 1608; Case Code (Imperial): 0603; Contact Plating: Tin,Matte; Min Operating Temperature: -55°C; Max Operating Temperature: 155°C; Tolerance: 1%; Packaging: Tape and Reel; Resistor Type: Thick Film; Number of Terminations: 2; Features: Automotive AEC-Q200; Series: RMCF; Length: 0.061inch; Width: 0.031inch; Height: 0.022inch; Radiation Hardening: No; RoHS Compliant: Yes; ComponentLink1URL: http://components.arrow.com/part/dataview/50863347S9465827N1174?src-supplier=Arrow+Electronics; ComponentLink1Description: http://components.arrow.com/part/dataview/50863347S9465827N1174?src-supplier=Arrow+Electronics; ComponentLink2URL: https://www.seielect.com/catalog/SEI-RMCF_RMCP.pdf?src-supplier=Avnet; ComponentLink2Description: https://www.seielect.com/catalog/SEI-RMCF_RMCP.pdf?src-supplier=Avnet; ComponentLink3URL: https://www.seielect.com/catalog/SEI-Packaging.pdf?src-supplier=Digi-Key; ComponentLink3Description: https://www.seielect.com/catalog/SEI-Packaging.pdf?src-supplier=Digi-Key; Supplier Part Number 1: RMCF0603FT5K10CT-ND
footprint RES_0603
pins: 1, 2

## RMCF0603FT220K
designator R?  Resistance: 220k  (hidden comment: RMCF0603FT220K)
Res Thick Film 0603 220K Ohm 1% 0.1W(1/10W) ±100ppm/C Pad SMD Automotive T/R; Manufacturer: Stackpole Electronics; Max Power Dissipation: 100mW; Temperature Coefficient: 100ppm/°C; Supplier 1: Digi-Key; Manufacturer Part Number: RMCF0603FT220K; RoHS: Yes; Category: Chip SMD Resistors; Stock 1: 3017881; Pricing 1: 1=0.10000, 10=0.01700, 100=0.00680, 1000=0.00305, 2500=0.00264 (USD); Mount: Surface Mount; Case/Package: 0603; Case Code (Metric): 1608; Case Code (Imperial): 0603; Contact Plating: Tin,Matte; Min Operating Temperature: -55°C; Max Operating Temperature: 155°C; Tolerance: 1%; Packaging: Tape and Reel; Resistor Type: Thick Film; Number of Terminations: 2; Features: Automotive AEC-Q200; Series: RMCF; Construction: Rectangular; Length: 0.061inch; Width: 0.031inch; Height: 0.022inch; Depth: 0.8mm; Radiation Hardening: No; Military Standard: Not; Lead Free: Lead Free; RoHS Compliant: Yes; ComponentLink1URL: https://datasheet.ciiva.com/26835/getdatasheetpartid-479010-26835622.pdf?src-supplier=Verical; ComponentLink1Description: https://datasheet.ciiva.com/26835/getdatasheetpartid-479010-26835622.pdf?src-supplier=Verical; Supplier Part Number 1: RMCF0603FT220KCT-ND
footprint RES_0603
pins: 1, 2

## RNCP0603FTD10K0
designator R?  Resistance: 10k  (hidden comment: RNCP0603FTD10K0)
Res Thin Film 0603 10K Ohm 1% 1/8W ±100ppm/°C Molded SMD SMD Paper T/R; Manufacturer: Stackpole Electronics; Max Power Dissipation: 125mW; Supplier 1: Digi-Key; Manufacturer Part Number: RNCP0603FTD10K0; RoHS: Yes; Category: Chip SMD Resistors; Stock 1: 2737524; Pricing 1: 1=0.10000, 10=0.06100, 100=0.02480, 1000=0.01113, 2500=0.00966 (USD); Mount: Surface Mount; Case/Package: 0603; Case Code (Metric): 1608; Case Code (Imperial): 0603; Contact Plating: Tin,Matte; Min Operating Temperature: -55°C; Max Operating Temperature: 155°C; Packaging: Tape and Reel; Tolerance: 1%; Resistor Type: Thin Film; Number of Terminations: 2; Temperature Coefficient: 100ppm/°C; Features: Moisture Resistant,Anti-Sulfur; Series: RNCP; Length: 0.059inch; Width: 0.031inch; Height: 0.02inch; Radiation Hardening: No; Lead Free: Lead Free; RoHS Compliant: Yes; ComponentLink1URL: https://www.seielect.com/Catalog/SEI-rncp.pdf?src-supplier=Avnet; ComponentLink1Description: https://www.seielect.com/Catalog/SEI-rncp.pdf?src-supplier=Avnet; ComponentLink2URL: https://www.seielect.com/Catalog/SEI-rncp.pdf?src-supplier=Digi-Key; ComponentLink2Description: https://www.seielect.com/Catalog/SEI-rncp.pdf?src-supplier=Digi-Key; ComponentLink3URL: https://www.seielect.com/catalog/SEI-Packaging.pdf?src-supplier=Digi-Key; ComponentLink3Description: https://www.seielect.com/catalog/SEI-Packaging.pdf?src-supplier=Digi-Key; Supplier Part Number 1: RNCP0603FTD10K0CT-ND
footprint RES_0603
pins: 1, 2

## RP115L331D-E2
designator U?
LDO Regulator Pos 3.3V 0.5A/1A 8-Pin DFN EP T/R; Manufacturer: Ricoh; Supplier 1: Digi-Key; Manufacturer Part Number: RP115L331D-E2; RoHS: No; Category: Voltage Regulators - Linear; Supplier Part Number 1: 2129-RP115L331D-E2CT-ND
footprint RP115L331D-E2 (SON, 8-Leads, Body 1.60x1.20mm, Pitch 0.40mm, Thermal Pad 1.30x0.02mm, IPC Medium Density)
pins: 1 VOUT, 2 VOUT, 3 LCON, 4 VFB, 5 GND, 6 CE, 7 VDD, 8 VDD, 9 PAD

## SSM3K37FS,LF
designator Q?
MOSFET NCH 20V 200MA SSM; Manufacturer: Toshiba; Rds On Max: 2.2R; Input Capacitance: 12pF; Max Power Dissipation: 100mW; Supplier 1: Digi-Key; RoHS: Yes; Category: MOSFETs; Stock 1: 73760; Pricing 1: 1=0.25000, 10=0.20100, 100=0.10660, 500=0.07012, 1000=0.04768 (USD); Mount: Surface Mount; Packaging: Tape and Reel; Drain to Source Voltage (Vdss): 20V; Continuous Drain Current (ID): 200mA; ComponentLink1URL: https://toshiba.semicon-storage.com/info/docget.jsp?did=6172&prodName=SSM3K37FS&src-supplier=Digi-Key; ComponentLink1Description: https://toshiba.semicon-storage.com/info/docget.jsp?did=6172&prodName=SSM3K37FS&src-supplier=Digi-Key; Supplier Part Number 1: SSM3K37FSLFCT-ND; Manufacturer Part Number: SSM3K37FS,LF
footprint SSM3K37FS,LF (SOT23, 3-Leads, Body 1.60x1.60mm, Pitch 0.50mm, IPC Medium Density)
pins: 1 Drain, 2 Gate, 3 Source

## TL3330AF130QG
designator S?
Switch Tactile N.O. SPST Rectangular Button Gull Wing 0.05A 12VDC 50000Cycles 1.27N SMD T/R; Manufacturer: E-Switch; Actuator Material: Nylon,Polyamide; Operating Force: 130gf; Illumination Type: Non-Illuminated,Illuminated; Switch Travel: 0.25mm; Switch Function: Off-Mom; Voltage Rating (DC): 12V; Contact Resistance: 100mR; Current Rating: 50mA; Actuator Length: 1mm; Supplier 1: Digi-Key; RoHS: Yes; Category: Tactile Switches; Stock 1: 42241; Pricing 1: 1=0.51000, 10=0.48800, 25=0.47000, 100=0.40680, 250=0.37060, 500=0.34350, 1000=0.30734 (USD); Mount: Surface Mount; Case/Package: SMD/SMT; Contact Plating: Silver; Mechanical Life: 50000Cycles; Contact Material: Silver; Color: Black; Min Operating Temperature: -30°C; Max Operating Temperature: 70°C; Package Quantity: 1; Packaging: Tape and Reel; Throw Configuration: SPST; Termination: Gull Wing; Orientation: Right Angle; Series: TL3330; Max Voltage Rating (DC): 12V; Electrical Life: 50000Cycles; Size: 5.3mm; Lead Free: Lead Free; REACH SVHC: No SVHC; RoHS Compliant: Yes; ComponentLink1URL: https://datasheet.ciiva.com/2900/p010950-2900785.pdf?src-supplier=Digi-Key; ComponentLink1Description: https://datasheet.ciiva.com/2900/p010950-2900785.pdf?src-supplier=Digi-Key; ComponentLink2URL: https://datasheet.ciiva.com/23713/tl3330-23713381.pdf?src-supplier=Newark; ComponentLink2Description: https://datasheet.ciiva.com/23713/tl3330-23713381.pdf?src-supplier=Newark; ComponentLink3URL: https://datasheet.ciiva.com/2900/p010950-2900786.pdf?src-supplier=Digi-Key; ComponentLink3Description: https://datasheet.ciiva.com/2900/p010950-2900786.pdf?src-supplier=Digi-Key; ComponentLink4URL: https://datasheet.ciiva.com/2900/p010950-2900787.pdf?src-supplier=Digi-Key; ComponentLink4Description: https://datasheet.ciiva.com/2900/p010950-2900787.pdf?src-supplier=Digi-Key; Supplier Part Number 1: EG4388CT-ND; Manufacturer Part Number: TL3330AF130QG
footprint TL3330AF130QG
pins: 1, 2

## TPS2115PW
designator U?
Pwr Mux Autoswitch 1.5V to 5.5V 1.25A 8-Pin TSSOP Tube; Manufacturer: Texas Instruments; Number of Outputs: 1; Number of Inputs: 2; Min Input Voltage: 2.8V; Turn-On Delay Time: 1ms; Max Power Dissipation: 386.84mW; On-State Resistance: 84mR; Max Supply Current: 55uA; Output Voltage: 6V; Supplier 1: Digi-Key; Manufacturer Part Number: TPS2115PW; RoHS: Yes; Category: Voltage Regulators - Switching; Stock 1: 1098; Pricing 1: 1=2.94000, 10=2.63600, 25=2.49240, 100=2.16000, 250=2.04924, 500=1.83878, 1000=1.82875 (USD); Case/Package: TSSOP; Number of Pins: 8; Weight: 0.001376oz; Min Operating Temperature: -40°C; Max Operating Temperature: 85°C; Output Current: 1.25A; Packaging: Rail/Tube; Package Quantity: 150; Max Output Current: 1.25A; Max Input Voltage: 5.5V; Current - Output 2: 1.25A; Operating Supply Voltage: 5.5V; Series: -; Length: 3mm; Width: 4.4mm; Height: 1.15mm; Radiation Hardening: No; Lead Free: Lead Free; RoHS Compliant: Yes; REACH SVHC: No SVHC; ComponentLink1URL: https://datasheet.ciiva.com/1960/tps2114-1960868.pdf?src-supplier=Digi-Key; ComponentLink1Description: https://datasheet.ciiva.com/1960/tps2114-1960868.pdf?src-supplier=Digi-Key; ComponentLink2URL: https://datasheet.ciiva.com/4923/slvs447a-206199-4923489.pdf?src-supplier=Mouser; ComponentLink2Description: https://datasheet.ciiva.com/4923/slvs447a-206199-4923489.pdf?src-supplier=Mouser; ComponentLink3URL: https://datasheet.ciiva.com/3232/tps2115-3232474.pdf?src-supplier=Avnet; ComponentLink3Description: https://datasheet.ciiva.com/3232/tps2115-3232474.pdf?src-supplier=Avnet; Supplier Part Number 1: 296-14207-5-ND
footprint TPS2115PW
pins: 1 STAT (hiz) "STAT is an open-drain output that is Hi-Z if the IN2 switch is ON. STAT pulls low if the IN1 switch is ON or if OUT is Hi-Z (i.e., E\N\ is equal to logic 0).", 2 D0 (in) "TTL and CMOS compatible input pins. Each pin has a 1-uA pullup resistor. The truth table shown above illustrates the functionality of D0 and D1.", 3 D1 (in) "TTL and CMOS compatible input pins. Each pin has a 1-uA pullup resistor. The truth table shown above illustrates the functionality of D0 and D1.", 4 ILIM (in) "A resistor R(ILIM) from ILIM to GND sets the current limit I L to 250/R(ILIM) and 500/R(ILIM) for the TPS2114 and TPS2115, respectively.", 5 GND (power) "Ground", 6 IN2 (power) "Secondary power switch input. The IN2 switch can be enabled only if the IN2 supply is above the UVLO threshold and at least one supply exceeds the internal VDD UVLO.", 7 OUT (power) "Power switch output", 8 IN1 (power) "Primary power switch input. The IN1 switch can be enabled only if the IN1 supply is above the UVLO threshold and at least one supply exceeds the internal VDD UVLO."

## USB4105-GF-A
designator J?
Conn USB 2.0 Type C RCP 24 POS 0.3mm/0.5mm Solder RA SMD 24 Terminal 1 Port T/R; Manufacturer: Global Connector Technology; Supplier 1: Digi-Key; Manufacturer Part Number: USB4105-GF-A; RoHS: No; Category: USB Connectors; Supplier Part Number 1: 2073-USB4105-GF-ACT-ND
footprint USB4105-GF-A
pins: A1/B12 GND (power), A4/B9 VBUS (power), A5 CC1, A6/B6 D_P (io), A7/B7 D_N (io), A8 SBU1, B1/A12 GND (power), B4/A9 VBUS (power), B5 CC2, B8 SBU2, SHLD (power)